# EAGLE library part LOGGER_MODUL (library mbed-microcontroller)
Data Logger Modul
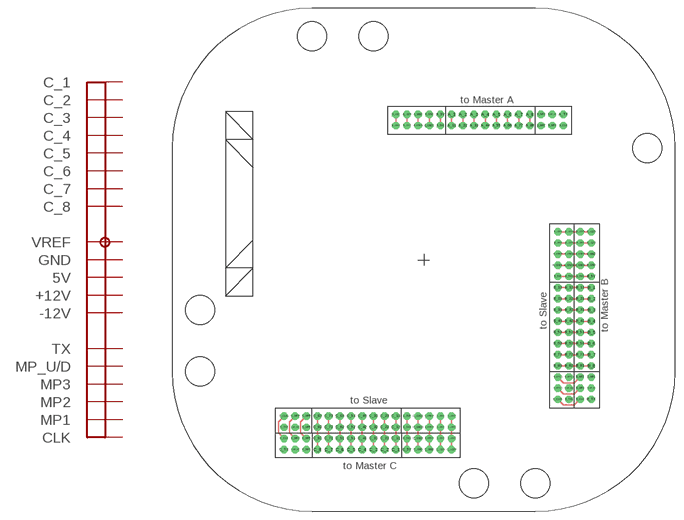
[diagram p16: symbol with the pads of LOGGER_SHIELD_MODUL; footprint LOGGER_SHIELD_MODUL]

Designator prefix -

## LOGGER_MODUL  [LOGGER_SHIELD_MODUL]
A_1  C_1
A_2  C_2
A_3  C_3
A_4  C_4
A_5  C_5
A_5V  5V
A_5V1  5V
A_6  C_6
A_7  C_7
A_8  C_8
A_11  C_1
A_22  C_2
A_33  C_3
A_44  C_4
A_55  C_5
A_66  C_6
A_77  C_7
A_88  C_8
A_+12  +12V
A_+12V1  +12V
A_-12V  -12V
A_-12V1  -12V
A_CLK  CLK
A_GND  GND
A_GND1  GND
A_MP1  MP1
A_MP2  MP2
A_MP3  MP3
A_MP_U/D  MP_U/D
A_TX  TX
A_VREF  VREF
A_VREF1  VREF
B_GND  GND
B_GND1  GND
B_GND2  GND
B_GND3  GND
C_GND  GND
C_GND1  GND
C_GND2  GND
C_GND3  GND

## Footprint LOGGER_SHIELD_MODUL (pad centres in mm)
drill 0.8 octagon: A_1 5,26; A_2 7,26; A_3 9,26; A_4 11,26; A_5 13,26; A_5V 3,26; A_5V1 3,24; A_6 15,26; A_7 17,26; A_8 19,26; A_11 5,24; A_22 7,24; A_33 9,24; A_44 11,24; A_55 13,24; A_66 15,24; A_77 17,24; A_88 19,24; A_+12 -5,26; A_+12V1 -5,24; A_-12V -3,26; A_-12V1 -3,24; A_CLK 25,24; A_GND 1,26; A_GND1 1,24; A_MP1 21,26; A_MP2 21,24; A_MP3 23,24; A_MP_U/D 23,26; A_TX 25,26; A_VREF -1,26; A_VREF1 -1,24; B_1 30,-5; B_2 30,-7; B_3 30,-9; B_4 30,-11; B_5 30,-13; B_5V 30,-3; B_5V1 28,-3; B_5V2 24,-3; B_5V3 26,-3; B_6 30,-15; B_7 30,-17; B_8 30,-19; B_11 28,-5; B_12 26,-5; B_13 24,-5; B_21 28,-7; B_22 26,-7; B_23 24,-7; B_31 28,-9; B_32 26,-9; B_33 24,-9; B_41 28,-11; B_42 26,-11; B_43 24,-11; B_51 28,-13; B_52 26,-13; B_53 24,-13; B_61 28,-15; B_62 26,-15; B_63 24,-15; B_71 28,-17; B_72 26,-17; B_73 24,-17; B_81 28,-19; B_82 26,-19; B_83 24,-19; B_+12V 30,5; B_+12V1 28,5; B_+12V2 24,5; B_+12V3 26,5; B_-12V 30,3; B_-12V1 28,3; B_-12V2 24,3; B_-12V3 26,3; B_CLK 28,-25; B_CLK1 24,-25; B_GND 30,-1; B_GND1 28,-1; B_GND2 24,-1; B_GND3 26,-1; B_MP1 30,-21; B_MP1_1 26,-21; B_MP2 28,-21; B_MP2_1 24,-21; B_MP3 28,-23; B_MP3_1 24,-23; B_MP_U/D 30,-23; B_MP_U/D1 26,-23; B_TX 30,-25; B_TX1 26,-25; B_VREF 30,1; B_VREF1 28,1; B_VREF2 24,1; B_VREF3 26,1; C_1 -5,-34; C_2 -7,-34; C_3 -9,-34; C_4 -11,-34; C_5 -13,-34; C_5V -3,-34; C_5V1 -3,-32; C_5V2 -3,-28; C_5V3 -3,-30; C_6 -15,-34; C_7 -17,-34; C_8 -19,-34; C_11 -5,-32; C_12 -5,-30; C_13 -5,-28; C_21 -7,-32; C_22 -7,-30; C_23 -7,-28; C_31 -9,-32; C_32 -9,-30; C_33 -9,-28; C_41 -11,-32; C_42 -11,-30; C_43 -11,-28; C_51 -13,-32; C_52 -13,-30; C_53 -13,-28; C_61 -15,-32; C_62 -15,-30; C_63 -15,-28; C_71 -17,-32; C_72 -17,-30; C_73 -17,-28; C_81 -19,-32; C_82 -19,-30; C_83 -19,-28; C_+12V 5,-34; C_+12V1 5,-32; C_+12V2 5,-28; C_+12V3 5,-30; C_-12V 3,-34; C_-12V1 3,-32; C_-12V2 3,-28; C_-12V3 3,-30; C_CLK -25,-32; C_CLK1 -25,-28; C_GND -1,-34; C_GND1 -1,-32; C_GND2 -1,-28; C_GND3 -1,-30; C_MP1 -21,-34; C_MP2 -21,-32; C_MP3 -23,-32; C_MP4 -23,-28; C_MP5 -21,-28; C_MP6 -21,-30; C_MP_U/D -23,-34; C_MP_U/D1 -23,-30; C_TX -25,-34; C_TX1 -25,-30; C_VREF 1,-34; C_VREF1 1,-32; C_VREF2 1,-28; C_VREF3 1,-30
hole 5.2 at -40,-20
hole 5.2 at 40,20
hole 5.2 at -9,40
hole 5.2 at 9,-40
hole 5.2 at 20,-40
hole 5.2 at -40,-9
hole 5.2 at -20,40